# Altium schematic symbol library Schematic_Lib.SchLib: 31 symbols (part 2 of 2)
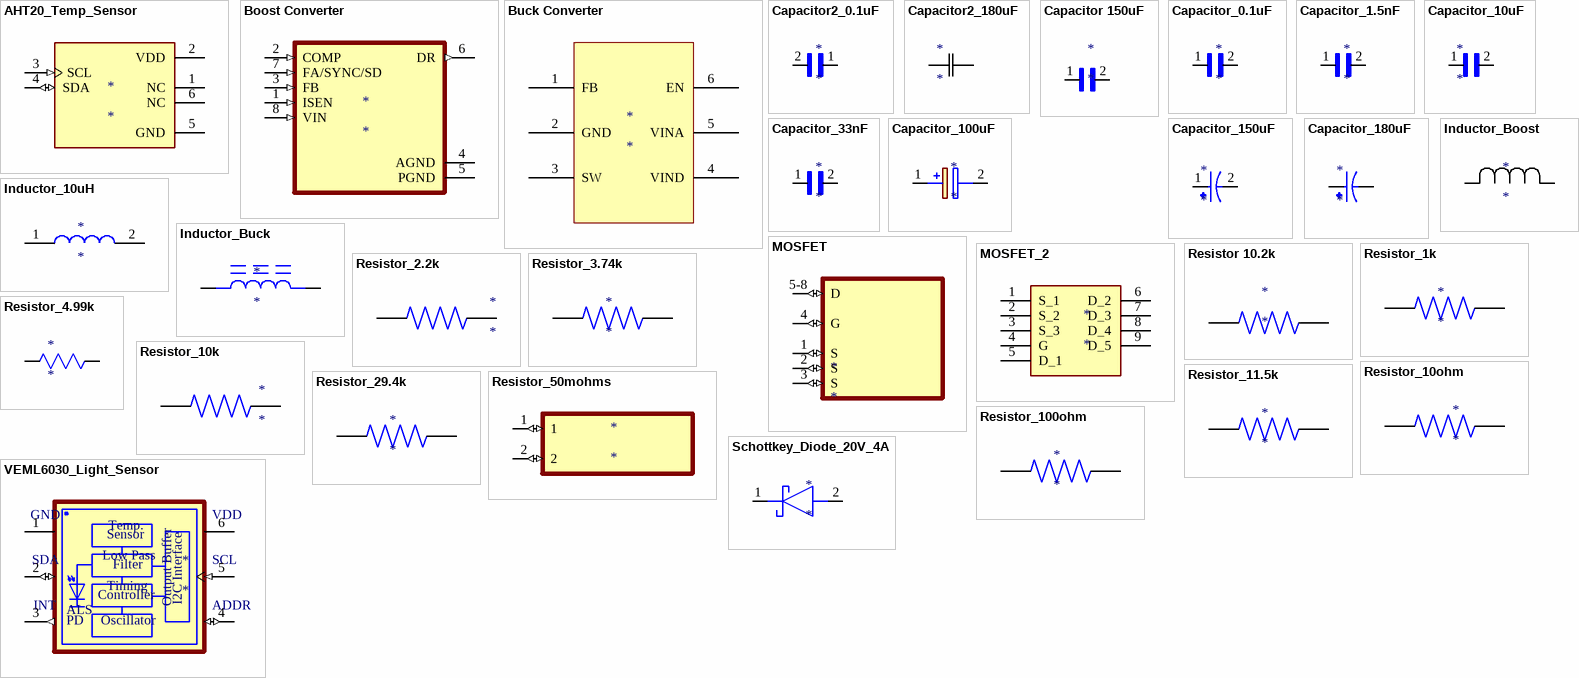
[diagram p1: symbols AHT20_Temp_Sensor to VEML6030_Light_Sensor]

## Resistor_10k
designator *
Res Thin Film 0805 10K Ohm 1% 1/10W ±50ppm/°C Molded SMD SMD Paper T/R; Manufacturer: TE Connectivity Neohm; Manufacturer Part Number: CPF0805F10KC1; Resistance: 10kR; Max Power Dissipation: 100mW; Number of Resistors: 1; Voltage Rating: 100V; Supplier 1: Mouser; Supplier Part Number 1: 279-CPF0805F10KC1; RoHS: Yes; Category: Chip SMD Resistors; Stock 1: 2893; Pricing 1: 1=0.12000, 10=0.10000, 50=0.10000, 100=0.05400, 1000=0.02200, 10000=0.02200 (USD); Mount: Surface Mount; Case/Package: 0805; Min Operating Temperature: -55°C; Max Operating Temperature: 155°C; Packaging: Tape and Reel; Number of Terminations: 2; Temperature Coefficient: 50ppm/°C; Tolerance: 1%; Series: CPF, Neohm; Power Rating: 100mW; Termination: Solder; RoHS Compliant: Yes; ELV: Compliant; ComponentLink1URL: https://www.te.com/commerce/DocumentDelivery/DDEController?Action=srchrtrv&amp;DocNm=1773200&amp;DocType=DS&amp;DocLang=English&src-supplier=Digi-Key; ComponentLink1Description: https://www.te.com/commerce/DocumentDelivery/DDEController?Action=srchrtrv&amp;DocNm=1773200&amp;DocType=DS&amp;DocLang=English&src-supplier=Digi-Key
footprint Resistor_10k
pins: 1, 2

## Resistor_10ohm
designator *
RES TF 1/10W 10 OHM 1% 0603; Manufacturer: Yageo; Manufacturer Part Number: RT0603DRE0710RL; Resistance: 10R; Tolerance: 0.5%; Temperature Coefficient: 50ppm/°C; Max Power Dissipation: 100mW; Voltage Rating (DC): 50V; Supplier 1: Mouser; Supplier Part Number 1: 603-RT0603DRE0710RL; RoHS: Yes; Category: Chip SMD Resistors; Stock 1: 9956; Pricing 1: 1=0.16000, 10=0.10500, 50=0.10500, 100=0.04100, 1000=0.02100, 10000=0.01300 (USD); Case/Package: 0603; Contact Plating: Tin,Matte; Case Code (Metric): 1608; Case Code (Imperial): 0603; Min Operating Temperature: -55°C; Max Operating Temperature: 155°C; Resistor Type: Thin Film; Package Quantity: 5000; Packaging: Tape and Reel; Number of Terminations: 2; Features: Moisture Resistant; Series: RT; Length: 0.063inch; Width: 0.031inch; Height: 0.022inch; Radiation Hardening: No; RoHS Compliant: Yes; Lead Free: Lead Free; ComponentLink1URL: https://datasheet.ciiva.com/8891/pyu-rt-1-to-0-05-rohs-l-4-8891368.pdf?src-supplier=Avnet; ComponentLink1Description: https://datasheet.ciiva.com/8891/pyu-rt-1-to-0-05-rohs-l-4-8891368.pdf?src-supplier=Avnet; ComponentLink2URL: https://datasheet.ciiva.com/2565/pyu-rt-1-to-0-05-rohs-l-5-2565943.pdf?src-supplier=Digi-Key; ComponentLink2Description: https://datasheet.ciiva.com/2565/pyu-rt-1-to-0-05-rohs-l-5-2565943.pdf?src-supplier=Digi-Key; Supplier 2: Digi-Key; Supplier Part Number 2: RMCF0603FT10R0TR-ND; Stock 2: 6764342; Pricing 2: 5000=0.00218 (USD); Mount: Surface Mount; Power Rating: 100mW; Construction: Rectangular; Depth: 0.8mm; Military Standard: Not; ComponentLink3URL: http://components.arrow.com/part/dataview/44988319S6756893N1174?src-supplier=Arrow+Electronics; ComponentLink3Description: http://components.arrow.com/part/dataview/44988319S6756893N1174?src-supplier=Arrow+Electronics; ComponentLink4URL: https://www.seielect.com/catalog/SEI-Packaging.pdf?src-supplier=Digi-Key; ComponentLink4Description: https://www.seielect.com/catalog/SEI-Packaging.pdf?src-supplier=Digi-Key; ComponentLink5URL: https://www.seielect.com/catalog/SEI-RMCF_RMCP.pdf?src-supplier=Avnet; ComponentLink5Description: https://www.seielect.com/catalog/SEI-RMCF_RMCP.pdf?src-supplier=Avnet; ComponentLink6URL: https://www.seielect.com/catalog/SEI-RMCF_RMCP.pdf?src-supplier=Avnet+Asia; ComponentLink6Description: https://www.seielect.com/catalog/SEI-RMCF_RMCP.pdf?src-supplier=Avnet+Asia; ComponentLink7URL: https://www.verical.com/server-webapp/html/getDatasheet?partID=372827&src-supplier=Verical; ComponentLink7Description: https://www.verical.com/server-webapp/html/getDatasheet?partID=372827&src-supplier=Verical
footprint Resistor_10ohm
pins: 1, 2

## Resistor_11.5k
designator *
Res 11.5K Ohm 0.5% 1/10W 0603; Manufacturer: KOA Speer; Manufacturer Part Number: RN73R1JTTD1152D100; Supplier 1: Digi-Key; Supplier Part Number 1: 2019-RN73R1JTTD1152D100CT-ND; RoHS: Yes; Category: Chip SMD Resistors; Pricing 1: 1000=0.05712 (USD)
footprint Resistor_11.5k
pins: 1, 2

## Resistor_29.4k
designator *
Res Thick Film 0402 29.4K Ohm 1% 0.063W ±100ppm/°C Molded SMD Paper T/R; Manufacturer: KOA Speer; Manufacturer Part Number: RN73R2ATTD2942F50; Resistance: 29.4kR; Max Power Dissipation: 63mW; Supplier 1: Digi-Key; Supplier Part Number 1: 2019-RN73R2ATTD2942F50CT-ND; RoHS: Yes; Category: Chip SMD Resistors; Pricing 1: 1000=0.06962 (USD); Supplier 2: Digi-Key; Supplier Part Number 2: RMCF0402FT29K4CT-ND; Stock 2: 88848; Pricing 2: 1=0.10000, 10=0.01500, 100=0.00610, 1000=0.00274, 2500=0.00238, 5000=0.00197 (USD); Mount: Surface Mount; Case/Package: 0402; Case Code (Metric): 1005; Case Code (Imperial): 0402; Contact Plating: Tin,Matte; Min Operating Temperature: -55°C; Max Operating Temperature: 155°C; Packaging: Tape and Reel; Tolerance: 1%; Resistor Type: Thick Film; Number of Terminations: 2; Temperature Coefficient: 100ppm/°C; Features: Automotive AEC-Q200; Series: RMCF; Length: 0.039inch; Width: 0.02inch; Height: 0.016inch; Radiation Hardening: No; Lead Free: Lead Free; RoHS Compliant: Yes; ComponentLink1URL: https://www.seielect.com/Catalog/SEI-RMCF_RMCP.pdf?src-supplier=Digi-Key; ComponentLink1Description: https://www.seielect.com/Catalog/SEI-RMCF_RMCP.pdf?src-supplier=Digi-Key; ComponentLink2URL: https://www.seielect.com/catalog/SEI-RMCF_RMCP.pdf?src-supplier=Avnet; ComponentLink2Description: https://www.seielect.com/catalog/SEI-RMCF_RMCP.pdf?src-supplier=Avnet
footprint Resistor_29.4k
pins: 1, 2

## Resistor_50mohms
designator *
Res Thick Film 0805 50m Ohm 1% 1/4W ±100ppm/°C Molded SMD T/R; Manufacturer: Bourns; Manufacturer Part Number: CRM0805-FW-R050ELF; Resistance: 50mR; Power Rating: 250mW; Voltage Rating: 477mV; Temperature Coefficient: 200ppm/°C; Supplier 1: Digi-Key; Supplier Part Number 1: CRM0805-FW-R050ELFCT-ND; RoHS: Yes; Category: Chip SMD Resistors; Stock 1: 4738; Pricing 1: 1=0.67000, 10=0.56000, 25=0.48000, 50=0.43200, 100=0.37600, 250=0.33600, 500=0.27200, 1000=0.22000 (USD); Case/Package: 0805; Number of Pins: 2; Case Code (Metric): 2012; Case Code (Imperial): 0805; Min Operating Temperature: -55°C; Max Operating Temperature: 155°C; Packaging: Tape and Reel; Package Quantity: 1; Tolerance: 1%; Resistor Type: Thick Film; Number of Terminations: 2; Max Power Dissipation: 250mW; Series: CRM0805; Resistance Tolerance: 1%; Length: 0.079inch; Width: 0.047inch; Height: 0.024inch; REACH SVHC: No SVHC; RoHS Compliant: Yes; ComponentLink1URL: https://datasheet.ciiva.com/6564/crm0805-1206-2010-6564006.pdf?src-supplier=Digi-Key; ComponentLink1Description: https://datasheet.ciiva.com/6564/crm0805-1206-2010-6564006.pdf?src-supplier=Digi-Key; ComponentLink2URL: https://datasheet.ciiva.com/6564/crm0805-1206-2010-6564007.pdf?src-supplier=Digi-Key; ComponentLink2Description: https://datasheet.ciiva.com/6564/crm0805-1206-2010-6564007.pdf?src-supplier=Digi-Key; ComponentLink3URL: https://datasheet.ciiva.com/6564/crm0805-1206-2010-6564008.pdf?src-supplier=Digi-Key; ComponentLink3Description: https://datasheet.ciiva.com/6564/crm0805-1206-2010-6564008.pdf?src-supplier=Digi-Key; ComponentLink4URL: https://datasheet.ciiva.com/7985/1859481-7985934.pdf?src-supplier=Element14; ComponentLink4Description: https://datasheet.ciiva.com/7985/1859481-7985934.pdf?src-supplier=Element14; ComponentLink5URL: https://datasheet.ciiva.com/22693/1859481-22693285.pdf?src-supplier=Element14; ComponentLink5Description: https://datasheet.ciiva.com/22693/1859481-22693285.pdf?src-supplier=Element14
footprint Resistor_50mohms
pins: 1 (io), 2 (io)

## Resistor_100ohm
designator *
Res Thick Film 0402 100 Ohm 1% 0.063W(1/16W) +/-100ppm/ßC Pad SMD Automotive T/R; Manufacturer: Vishay Dale; Manufacturer Part Number: CRCW0402100RFKED; Resistance: 100R; Temperature Coefficient: 100ppm/°C; Power Rating: 63mW; Voltage Rating: 50V; Supplier 1: Digi-Key; Supplier Part Number 1: 541-100LDKR-ND; RoHS: Yes; Category: Chip SMD Resistors; Pricing 1: 1=0.10000, 10=0.03800, 100=0.01530, 1000=0.00686, 2500=0.00595, 5000=0.00492 (USD); Mount: Surface Mount; Case/Package: 0402; Contact Plating: Tin; Weight: 2.3E-05oz; Case Code (Metric): 1005; Case Code (Imperial): 0402; Min Operating Temperature: -55°C; Max Operating Temperature: 155°C; Tolerance: 1%; Resistor Type: Thick Film; Termination: SMD/SMT; Packaging: Tape and Reel; Package Quantity: 10; Number of Terminations: 2; Max Power Dissipation: 63mW; Voltage Rating (DC): 50V; Features: Automotive AEC-Q200; Series: CRCW; Resistance Tolerance: 1%; Technology: THICK FILM; Working Voltage: 50V; Construction: Rectangular; Length: 1mm; Width: 0.02inch; Height: 0.35mm; Depth: 0.5mm; Radiation Hardening: No; Lead Free: Lead Free; RoHS Compliant: Yes; REACH SVHC: Unknown; Military Standard: Not; ComponentLink1URL: https://datasheet.ciiva.com/11809/0900766b80d98824-11809081.pdf?src-supplier=RSComponents; ComponentLink1Description: https://datasheet.ciiva.com/11809/0900766b80d98824-11809081.pdf?src-supplier=RSComponents; ComponentLink2URL: https://datasheet.ciiva.com/2463/dcrcwe3-2463094.pdf?src-supplier=Digi-Key; ComponentLink2Description: https://datasheet.ciiva.com/2463/dcrcwe3-2463094.pdf?src-supplier=Digi-Key; ComponentLink3URL: https://datasheet.ciiva.com/3255/dcrcwe3-3255951.pdf?src-supplier=Avnet; ComponentLink3Description: https://datasheet.ciiva.com/3255/dcrcwe3-3255951.pdf?src-supplier=Avnet; ComponentLink4URL: https://datasheet.ciiva.com/8083/dcrcwe3-8083977.pdf?src-supplier=Avnet; ComponentLink4Description: https://datasheet.ciiva.com/8083/dcrcwe3-8083977.pdf?src-supplier=Avnet; ComponentLink5URL: https://datasheet.ciiva.com/2463/dcrcwe3-2463095.pdf?src-supplier=Digi-Key; ComponentLink5Description: https://datasheet.ciiva.com/2463/dcrcwe3-2463095.pdf?src-supplier=Digi-Key; ComponentLink6URL: https://datasheet.ciiva.com/2463/dcrcwe3-2463096.pdf?src-supplier=Digi-Key; ComponentLink6Description: https://datasheet.ciiva.com/2463/dcrcwe3-2463096.pdf?src-supplier=Digi-Key; ComponentLink7URL: https://datasheet.ciiva.com/5552/dcrcwe3-109170-5552168.pdf?src-supplier=Mouser; ComponentLink7Description: https://datasheet.ciiva.com/5552/dcrcwe3-109170-5552168.pdf?src-supplier=Mouser; ComponentLink8URL: https://datasheet.ciiva.com/16199/dcrcwe3-16199158.pdf?src-supplier=Future+Electronics; ComponentLink8Description: https://datasheet.ciiva.com/16199/dcrcwe3-16199158.pdf?src-supplier=Future+Electronics; ComponentLink9URL: https://datasheet.ciiva.com/22673/1697337-22673117.pdf?src-supplier=Element14; ComponentLink9Description: https://datasheet.ciiva.com/22673/1697337-22673117.pdf?src-supplier=Element14; ComponentLink10URL: https://datasheet.ciiva.com/22673/1697337-22673118.pdf?src-supplier=Element14; ComponentLink10Description: https://datasheet.ciiva.com/22673/1697337-22673118.pdf?src-supplier=Element14; ComponentLink11URL: https://datasheet.ciiva.com/16722/70201119-16722524.pdf?src-supplier=Allied+Electronics; ComponentLink11Description: https://datasheet.ciiva.com/16722/70201119-16722524.pdf?src-supplier=Allied+Electronics
footprint Resistor_100ohm
pins: 1, 2

## Schottkey_Diode_20V_4A
designator *
SL42 Series 20 V 2 A Surface Mount Schottky Barrier Rectifier - DO-214AB (SMC); Manufacturer: ON Semiconductor; Manufacturer Part Number: MBRS320T3; Max Surge Current: 80A; Average Rectified Current: 4A; Element Configuration: Single; Polarity: Standard; Voltage Rating (DC): 20V; Current Rating: 3A; Max Reverse Leakage Current: 2mA; Forward Voltage: 470mV; Max Reverse Current: 500uA; Peak Non-Repetitive Surge Current: 150A; Supplier 1: Digi-Key; Supplier Part Number 1: MBRS320T3OSCT-ND; RoHS: No; Category: Schottky Diodes; Case/Package: SMC; Number of Pins: 2; Min Operating Temperature: -65°C; Max Operating Temperature: 125°C; Package Quantity: 1; Packaging: Tape and Reel; Output Current: 3A; Max Reverse Voltage (DC): 20V; Max Forward Surge Current (Ifsm): 80A; Series: -; Lead Free: Contains Lead; RoHS Compliant: No; ComponentLink1URL: https://datasheet.ciiva.com/4719/mbrs340t3-d-302035-4719013.pdf?src-supplier=Mouser; ComponentLink1Description: https://datasheet.ciiva.com/4719/mbrs340t3-d-302035-4719013.pdf?src-supplier=Mouser; ComponentLink2URL: https://datasheet.ciiva.com/927/mbrs340t3-d-927080.pdf?src-supplier=Digi-Key; ComponentLink2Description: https://datasheet.ciiva.com/927/mbrs340t3-d-927080.pdf?src-supplier=Digi-Key; Supplier 2: Digi-Key; Supplier Part Number 2: SL42-E3/57TGICT-ND; Stock 2: 402; Pricing 2: 1=1.01000, 10=0.88500, 100=0.67820 (USD); Mount: Surface Mount; Forward Current: 4A; Max Repetitive Reverse Voltage (Vrrm): 20V; Radiation Hardening: No; REACH SVHC: Unknown; ComponentLink3URL: https://datasheet.ciiva.com/4714/88742-103296-4714672.pdf?src-supplier=Mouser; ComponentLink3Description: https://datasheet.ciiva.com/4714/88742-103296-4714672.pdf?src-supplier=Mouser; ComponentLink4URL: https://datasheet.ciiva.com/4246/sl42-4246044.pdf?src-supplier=Arrow+Electronics; ComponentLink4Description: https://datasheet.ciiva.com/4246/sl42-4246044.pdf?src-supplier=Arrow+Electronics; ComponentLink5URL: https://datasheet.ciiva.com/23793/1691224-23793280.pdf?src-supplier=Newark; ComponentLink5Description: https://datasheet.ciiva.com/23793/1691224-23793280.pdf?src-supplier=Newark; ComponentLink6URL: https://datasheet.ciiva.com/16355/sl42-16355184.pdf?src-supplier=Future+Electronics; ComponentLink6Description: https://datasheet.ciiva.com/16355/sl42-16355184.pdf?src-supplier=Future+Electronics; ComponentLink7URL: https://datasheet.ciiva.com/25937/sl42-25937965.pdf?src-supplier=Avnet+Europe; ComponentLink7Description: https://datasheet.ciiva.com/25937/sl42-25937965.pdf?src-supplier=Avnet+Europe
footprint Schottkey Diode_20V_4A
pins: 1 K, 2 A

## VEML6030_Light_Sensor
designator *
Light to Digital Ambient Light Sensor I2C Digital-OUT 0lux to 120000lux 6-Pin SMD T/R; Manufacturer: Vishay Semiconductors; Manufacturer Part Number: VEML6030; Wavelength: 550nm; Min Supply Voltage (DC): 2.5V; Max Supply Voltage (DC): 3.6V; Output Current: 3mA; Supplier 1: Digi-Key; Supplier Part Number 1: VEML6030TR-ND; RoHS: Yes; Category: Photoelectric Sensors; Pricing 1: 3000=0.98010 (USD); Mount: Surface Mount; Case/Package: SMD/SMT; Min Operating Temperature: -25°C; Max Operating Temperature: 85°C; Packaging: Tape and Reel; Output Type: I2C; Lead Free: Lead Free; RoHS Compliant: Yes; REACH SVHC: No SVHC; ComponentLink1URL: http://www.farnell.com/datasheets/2118174.pdf?_ga=2.238643840.1265931949.1503988629-1413671594.1503025027&src-supplier=Farnell; ComponentLink1Description: http://www.farnell.com/datasheets/2118174.pdf?_ga=2.238643840.1265931949.1503988629-1413671594.1503025027&src-supplier=Farnell; ComponentLink2URL: http://www.vishay.com/docs/84366/veml6030.pdf?src-supplier=Digi-Key; ComponentLink2Description: http://www.vishay.com/docs/84366/veml6030.pdf?src-supplier=Digi-Key; ComponentLink3URL: http://www.farnell.com/datasheets/2118174.pdf?_ga=2.238643840.1265931949.1503988629-1413671594.1503025027&src-supplier=Element14; ComponentLink3Description: http://www.farnell.com/datasheets/2118174.pdf?_ga=2.238643840.1265931949.1503988629-1413671594.1503025027&src-supplier=Element14; ComponentLink4URL: http://www.farnell.com/datasheets/2118174.pdf?_ga=2.238643840.1265931949.1503988629-1413671594.1503025027&src-supplier=Newark; ComponentLink4Description: http://www.farnell.com/datasheets/2118174.pdf?_ga=2.238643840.1265931949.1503988629-1413671594.1503025027&src-supplier=Newark
footprint VEML6030_Footprint
pins: 1 GND (power), 2 SDA (io), 3 INT (out), 4 ADDR (io), 5 SCL (in), 6 VDD (power)
text: Temp.; Sensor; Low Pass; Filter; Timing; Controller; Output Buffer; I2C Interface; ALS; PD; Oscillator